# EAGLE library part TM022HDH26-00 (library Board4You)
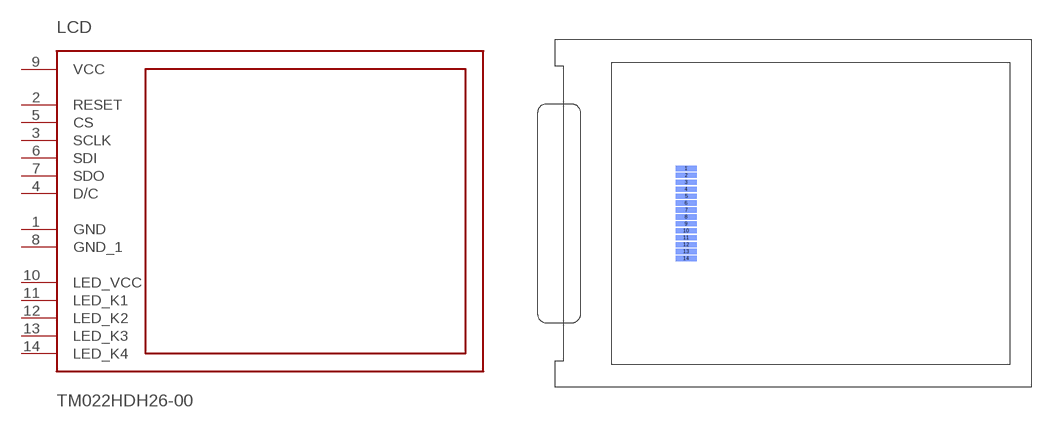
[diagram p10: symbol with the pads of TM022HDH26-00; footprint TM022HDH26-00]

Designator prefix LCD

## TM022HDH26-00  [TM022HDH26-00]
1  GND  pwr
2  RESET
3  SCLK
4  D/C
5  CS
6  SDI
7  SDO
8  GND_1  pwr
9  VCC  pwr
10  LED_VCC  pwr
11  LED_K1  pwr
12  LED_K2  pwr
13  LED_K3  pwr
14  LED_K4  pwr

## Footprint TM022HDH26-00 (pad centres in mm)
smd 2.4 x 0.6 bottom: 1 -12.35,5.2; 2 -12.35,4.4; 3 -12.35,3.6; 4 -12.35,2.8; 5 -12.35,2; 6 -12.35,1.2; 7 -12.35,0.4; 8 -12.35,-0.4; 9 -12.35,-1.2; 10 -12.35,-2; 11 -12.35,-2.8; 12 -12.35,-3.6; 13 -12.35,-4.4; 14 -12.35,-5.2